# Altium footprint library Generic-Footprint-Library.PcbLib: 21 footprints (part 2 of 2)
Each footprint in its own frame and in the unit in brackets; x right, y up, seen from the top. Pads: shape width x height; smd on the part's side, far side on the other; paste and mask are expansions set on the pad; w line width, h text height; cw(c..) or ccw(c..) is an arc to the next point about the centre after c.
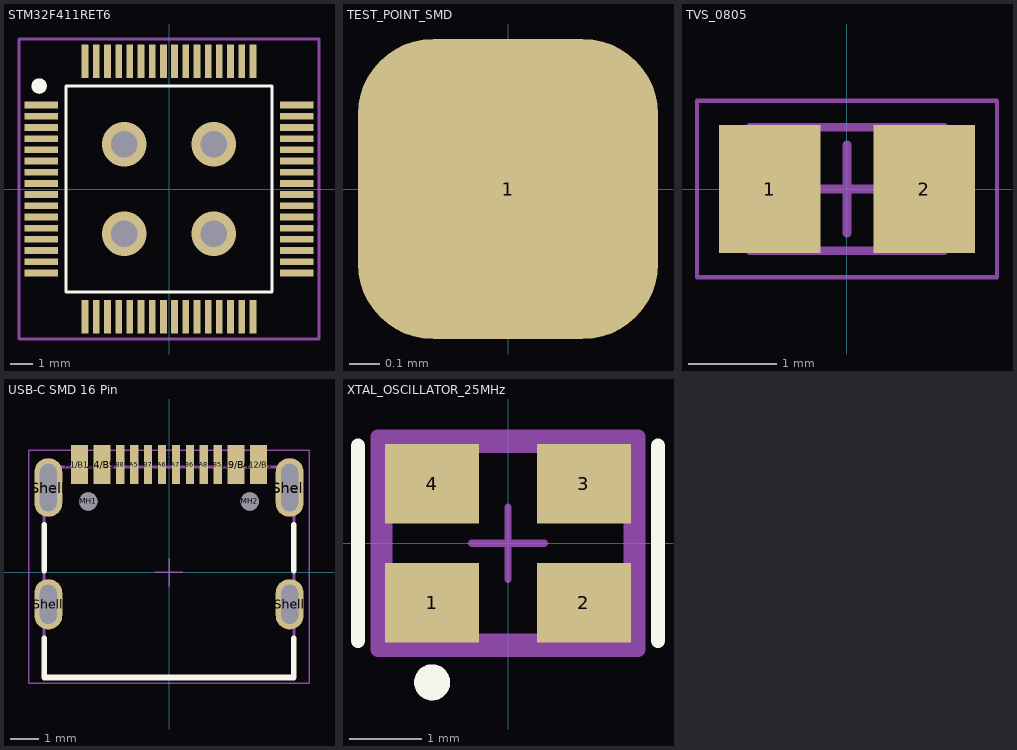
[diagram p1: the footprints below, top view; thin cyan lines are the x and y axes]

## STM32F411RET6 [mm] "ARM® Cortex®-M4 STM32F4 Microcontroller IC 32-Bit Single-Core 100MHz 512KB (512K x 8) FLASH 64-LQFP (10x10)"
pads (64):
  rect 1.5x0.3 smd: 1(-5.7,3.75) 2(-5.7,3.25) 3(-5.7,2.75) 4(-5.7,2.25) 5(-5.7,1.75) 6(-5.7,1.25) 7(-5.7,0.75) 8(-5.7,0.25) 9(-5.7,-0.25) 10(-5.7,-0.75) 11(-5.7,-1.25) 12(-5.7,-1.75) 13(-5.7,-2.25) 14(-5.7,-2.75) 15(-5.7,-3.25) 16(-5.7,-3.75) 33(5.7,-3.75) 34(5.7,-3.25) 35(5.7,-2.75) 36(5.7,-2.25) 37(5.7,-1.75) 38(5.7,-1.25) 39(5.7,-0.75) 40(5.7,-0.25) 41(5.7,0.25) 42(5.7,0.75) 43(5.7,1.25) 44(5.7,1.75) 45(5.7,2.25) 46(5.7,2.75) 47(5.7,3.25) 48(5.7,3.75)
  rect 0.3x1.5 smd: 17(-3.75,-5.7) 18(-3.25,-5.7) 19(-2.75,-5.7) 20(-2.25,-5.7) 21(-1.75,-5.7) 22(-1.25,-5.7) 23(-0.75,-5.7) 24(-0.25,-5.7) 25(0.25,-5.7) 26(0.75,-5.7) 27(1.25,-5.7) 28(1.75,-5.7) 29(2.25,-5.7) 30(2.75,-5.7) 31(3.25,-5.7) 32(3.75,-5.7) 49(3.75,5.7) 50(3.25,5.7) 51(2.75,5.7) 52(2.25,5.7) 53(1.75,5.7) 54(1.25,5.7) 55(0.75,5.7) 56(0.25,5.7) 57(-0.25,5.7) 58(-0.75,5.7) 59(-1.25,5.7) 60(-1.75,5.7) 61(-2.25,5.7) 62(-2.75,5.7) 63(-3.25,5.7) 64(-3.75,5.7)
via -2,2 diameter 2 hole 1.2
via 2,2 diameter 2 hole 1.2
via -2,-2 diameter 2 hole 1.2
via 2,-2 diameter 2 hole 1.2
Top Overlay:
  circle w0.127: c-5.8,4.6 r0.283
  circle w0.127: c-5.8,4.6 r0.224
  circle w0.127: c-5.8,4.6 r0.141
  circle w0.127: c-5.8,4.6 r0.1
  circle w0.127: c-5.8,4.6 r0.141
  circle w0.127: c-5.9,4.6 r0.1
  lines w0.127: -4.6,-4.6 4.6,-4.6 4.6,4.6 -4.6,4.6 -4.6,-4.6
Mechanical 15:
  lines w0.127: -6.7,-6.7 6.7,-6.7 6.7,6.7 -6.7,6.7 -6.7,-6.7
3D body "step_temp.STEP": height 1.6, standoff 0, extent -6,-6 6,6

## TEST_POINT_SMD [mm] "Test Point SMD Generic - for in circuit test"
pads (1):
  rrect50% 1x1 smd: 1(0,0)

## TVS_0805 [mm] "Chip Diode, 2-Leads, Body 2.00x1.25mm, IPC Medium Density"
height 1.2
pads (2):
  rect 1.15x1.45 smd: 1(-0.875,0) 2(0.875,0)
Top Courtyard:
  lines w0.05: -1.7,-1 -1.7,1 1.7,1 1.7,-1 -1.7,-1
  lines w0.1: -0.5,0 0.5,0 ; 0,-0.5 0,0.5
Top Assembly:
  lines w0.1: -1.1,-0.7 -1.1,0.7 1.1,0.7 1.1,-0.7 -1.1,-0.7
3D body "TVS_0805.step": height 1.2, standoff 0, extent -1.1,-0.7 1.1,0.7

## USB-C SMD 16 Pin [mm] "USB TYPE C VERTICAL PLUG"
height 3.31
pads (18):
  rect 0.6x1.4 smd: A1/B12(-3.2,3.859) A4/B9(-2.4,3.859) A9/B4(2.4,3.859) A12/B1(3.2,3.859)
  rect 0.3x1.4 smd: A5(-1.25,3.859) A6(-0.25,3.859) A7(0.25,3.859) A8(1.25,3.859) B5(1.75,3.859) B6(0.75,3.859) B7(-0.75,3.859) B8(-1.75,3.859)
  round 0.65 hole 0.65 unplated: MH1(-2.89,2.535) MH2(2.89,2.535)
  oval 1x1.8 hole 0.6 slot 1.4 at 90 deg: Shell(-4.32,-1.145) Shell(4.32,-1.145)
  oval 1x2.1 hole 0.6 slot 1.7 at 90 deg: Shell(-4.32,3.035) Shell(4.32,3.035)
Top Overlay:
  lines w0.2: -4.47,-2.355 -4.47,-3.765 4.47,-3.765 4.47,-2.355 ; -4.47,0.065 -4.47,1.695 ; 4.47,0.065 4.47,1.695
Top Courtyard:
  lines w0.05: -0.5,0 0.5,0 ; 0,-0.5 0,0.5 ; -5.02,-3.965 5.02,-3.965 5.02,4.375 -5.02,4.375 -5.02,-3.965
Top 3D Body:
  lines w0.1: -4.47,-3.765 -4.47,3.765 4.47,3.765 4.47,-3.765 -4.47,-3.765
Top Designator:
  text ".Designator" at -7.498,-0.5 h1.5
Top Component Outline:
  lines w0.1: -4.47,-3.765 -4.47,3.765 4.47,3.765 4.47,-3.765 -4.47,-3.765
3D body "629722000214.stp": height 3.33, standoff -0.83, extent -4.79,-3.765 4.79,3.945

## XTAL_OSCILLATOR_25MHz [mm] "XTAL Oscillator 25MHz ±50ppm CMOS 3.3V 4-SMD 3.2mm x 2.5mm"
pads (4):
  rect 1.3x1.1 smd paste+0 mask+0: 1(-1.05,-0.825) 2(1.05,-0.825) 3(1.05,0.825) 4(-1.05,0.825)
Top Overlay:
  circle w0.25: c-1.05,-1.925 r0.125
  lines w0.2: -2.075,-1.35 -2.075,1.35 ; 2.075,-1.35 2.075,1.35
Top Courtyard:
  lines w0.2: -1.8,-1.475 1.8,-1.475 1.8,1.475 -1.8,1.475 -1.8,-1.475
Top 3D Body:
  lines w0.2: -1.7,-1.35 1.7,-1.35 1.7,1.35 -1.7,1.35 -1.7,-1.35
Top Component Center:
  lines w0.1: -0.5,0 0.5,0 ; 0,-0.5 0,0.5
Top Assembly:
  lines w0.2: -1.8,-1.475 1.8,-1.475 1.8,1.475 -1.8,1.475 -1.8,-1.475
  text ".Designator" at 0,0.188 h1
3D body "Crys_Abracon_ASE-26_000MHZ-LR-T_eec.STEP": height 0.25, standoff 0, extent -1.8,-1.475 1.8,1.475